# EAGLE library part ISM43340 (library radio_in_progress)
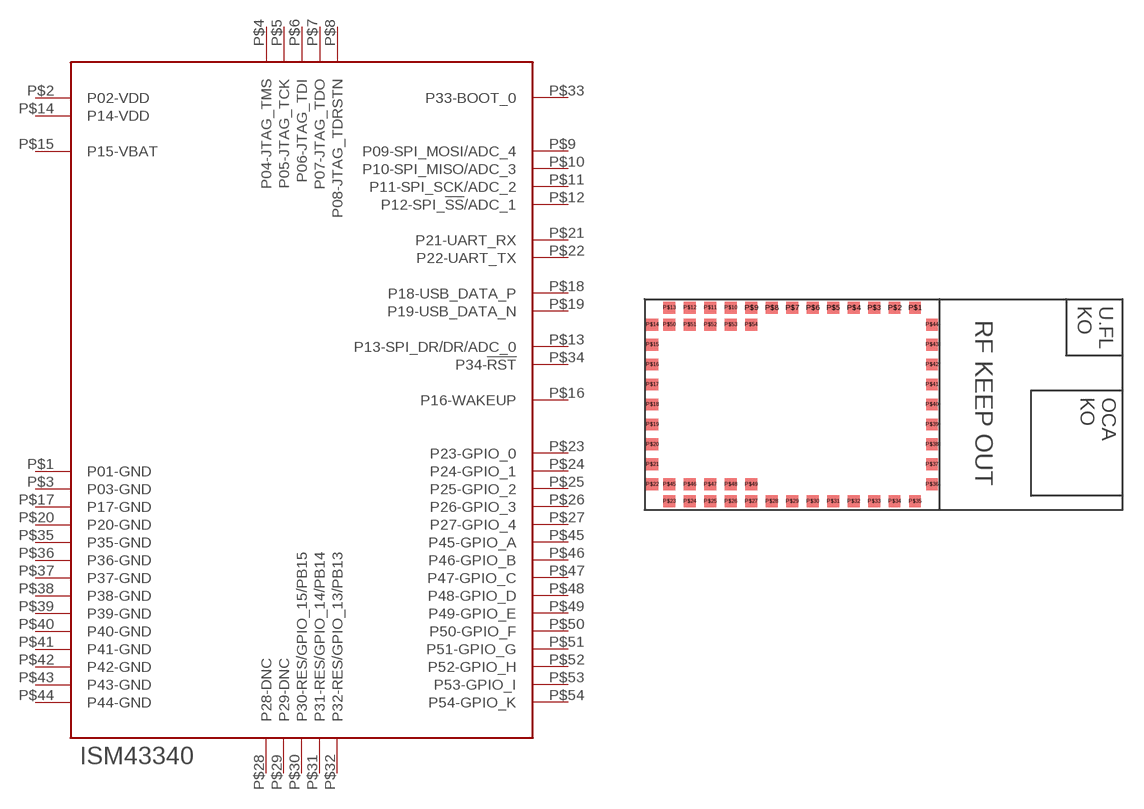
[diagram p0: symbol with the pads of ISM43340; footprint ISM43340]

Designator prefix -

## ISM43340  [ISM43340]
P$1  P01-GND
P$2  P02-VDD
P$3  P03-GND
P$4  P04-JTAG_TMS
P$5  P05-JTAG_TCK
P$6  P06-JTAG_TDI
P$7  P07-JTAG_TDO
P$8  P08-JTAG_TDRSTN
P$9  P09-SPI_MOSI/ADC_4
P$10  P10-SPI_MISO/ADC_3
P$11  P11-SPI_SCK/ADC_2
P$12  P12-SPI_!SS!/ADC_1
P$13  P13-SPI_DR/DR/ADC_0
P$14  P14-VDD
P$15  P15-VBAT
P$16  P16-WAKEUP
P$17  P17-GND
P$18  P18-USB_DATA_P
P$19  P19-USB_DATA_N
P$20  P20-GND
P$21  P21-UART_RX
P$22  P22-UART_TX
P$23  P23-GPIO_0
P$24  P24-GPIO_1
P$25  P25-GPIO_2
P$26  P26-GPIO_3
P$27  P27-GPIO_4
P$28  P28-DNC
P$29  P29-DNC
P$30  P30-RES/GPIO_15/PB15
P$31  P31-RES/GPIO_14/PB14
P$32  P32-RES/GPIO_13/PB13
P$33  P33-BOOT_0
P$34  P34-!RST!
P$35  P35-GND
P$36  P36-GND
P$37  P37-GND
P$38  P38-GND
P$39  P39-GND
P$40  P40-GND
P$41  P41-GND
P$42  P42-GND
P$43  P43-GND
P$44  P44-GND
P$45  P45-GPIO_A
P$46  P46-GPIO_B
P$47  P47-GPIO_C
P$48  P48-GPIO_D
P$49  P49-GPIO_E
P$50  P50-GPIO_F
P$51  P51-GPIO_G
P$52  P52-GPIO_H
P$53  P53-GPIO_I
P$54  P54-GPIO_K

## Footprint ISM43340 (pad centres in mm)
smd 0.847 x 0.847: P$1 8.742,6.89; P$2 7.285,6.89; P$3 5.828,6.89; P$4 4.371,6.89; P$5 2.914,6.89; P$6 1.457,6.89; P$7 0,6.89; P$8 -1.457,6.89; P$9 -2.914,6.89; P$10 -4.371,6.89; P$11 -5.828,6.89; P$12 -7.285,6.89; P$13 -8.742,6.89; P$14 -9.948,5.684; P$15 -9.948,4.263; P$16 -9.948,2.842; P$17 -9.948,1.421; P$18 -9.948,0; P$19 -9.948,-1.421; P$20 -9.948,-2.842; P$21 -9.948,-4.263; P$22 -9.948,-5.684; P$23 -8.742,-6.89; P$24 -7.285,-6.89; P$25 -5.828,-6.89; P$26 -4.371,-6.89; P$27 -2.914,-6.89; P$28 -1.457,-6.89; P$29 0,-6.89; P$30 1.457,-6.89; P$31 2.914,-6.89; P$32 4.371,-6.89; P$33 5.828,-6.89; P$34 7.285,-6.89; P$35 8.742,-6.89; P$36 9.948,-5.684; P$37 9.948,-4.263; P$38 9.948,-2.842; P$39 9.948,-1.421; P$40 9.948,0; P$41 9.948,1.421; P$42 9.948,2.842; P$43 9.948,4.263; P$44 9.948,5.684; P$45 -8.742,-5.684; P$46 -7.285,-5.684; P$47 -5.828,-5.684; P$48 -4.371,-5.684; P$49 -2.914,-5.684; P$50 -8.742,5.684; P$51 -7.285,5.684; P$52 -5.828,5.684; P$53 -4.371,5.684; P$54 -2.914,5.684